# Altium schematic symbol library A28_Package.SCHLIB: 1 symbol
Pins are listed as number, name and electrical type; pins without a type are passive.

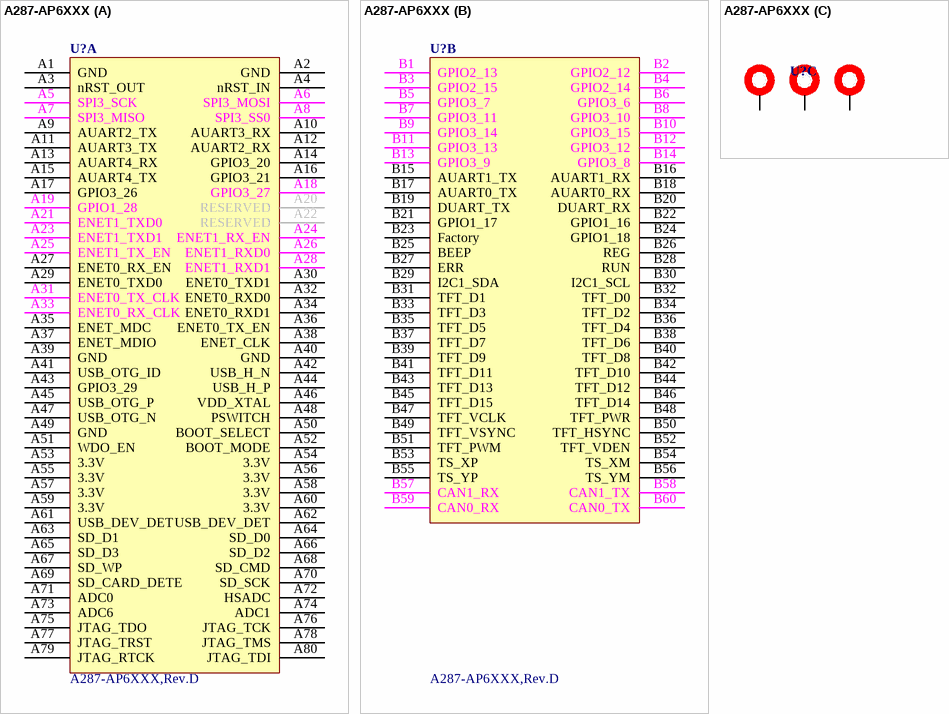
[diagram p0: symbol A287-AP6XXX]

## A287-AP6XXX
designator U?  value A287-AP6XXX,Rev.D  (hidden comment: A287-AP6XXX)
A287-AP6XXX,Rev.D,L6,1.6×30×48,F4-140,IG,1@3; 物料代码: 1.14.18.0163; 名称: PCB; RoHS: RoHS; 型号: A287-AP6XXX,Rev.D; 器件优选方案: *; ComponentLink1Description: ErpDataInfo; ComponentLink1URL: http://erp.zlgmcu.com/ErpExt/ErpData/ListMateriel.aspx?pkey=1.14.18.0163
footprint A287-AP6XXX (Rev.D)
part A pins: A1 GND, A2 GND, A3 nRST_OUT, A4 nRST_IN, A5 SPI3_SCK, A6 SPI3_MOSI, A7 SPI3_MISO, A8 SPI3_SS0, A9 AUART2_TX, A10 AUART3_RX, A11 AUART3_TX, A12 AUART2_RX, A13 AUART4_RX, A14 GPIO3_20, A15 AUART4_TX, A16 GPIO3_21, A17 GPIO3_26, A18 GPIO3_27, A19 GPIO1_28, A20 RESERVED, A21 ENET1_TXD0, A22 RESERVED, A23 ENET1_TXD1, A24 ENET1_RX_EN, A25 ENET1_TX_EN, A26 ENET1_RXD0, A27 ENET0_RX_EN, A28 ENET1_RXD1, A29 ENET0_TXD0, A30 ENET0_TXD1, A31 ENET0_TX_CLK, A32 ENET0_RXD0, A33 ENET0_RX_CLK, A34 ENET0_RXD1, A35 ENET_MDC, A36 ENET0_TX_EN, A37 ENET_MDIO, A38 ENET_CLK, A39 GND, A40 GND, A41 USB_OTG_ID, A42 USB_H_N, A43 GPIO3_29, A44 USB_H_P, A45 USB_OTG_P, A46 VDD_XTAL, A47 USB_OTG_N, A48 PSWITCH, A49 GND, A50 BOOT_SELECT, A51 WDO_EN, A52 BOOT_MODE, A53 3.3V, A54 3.3V, A55 3.3V, A56 3.3V, A57 3.3V, A58 3.3V, A59 3.3V, A60 3.3V, A61 USB_DEV_DET, A62 USB_DEV_DET, A63 SD_D1, A64 SD_D0, A65 SD_D3, A66 SD_D2, A67 SD_WP, A68 SD_CMD, A69 SD_CARD_DETE, A70 SD_SCK, A71 ADC0, A72 HSADC, A73 ADC6, A74 ADC1, A75 JTAG_TDO, A76 JTAG_TCK, A77 JTAG_TRST, A78 JTAG_TMS, A79 JTAG_RTCK, A80 JTAG_TDI
part B pins: B1 GPIO2_13, B2 GPIO2_12, B3 GPIO2_15, B4 GPIO2_14, B5 GPIO3_7, B6 GPIO3_6, B7 GPIO3_11, B8 GPIO3_10, B9 GPIO3_14, B10 GPIO3_15, B11 GPIO3_13, B12 GPIO3_12, B13 GPIO3_9, B14 GPIO3_8, B15 AUART1_TX, B16 AUART1_RX, B17 AUART0_TX, B18 AUART0_RX, B19 DUART_TX, B20 DUART_RX, B21 GPIO1_17, B22 GPIO1_16, B23 Factory, B24 GPIO1_18, B25 BEEP, B26 REG, B27 ERR, B28 RUN, B29 I2C1_SDA, B30 I2C1_SCL, B31 TFT_D1, B32 TFT_D0, B33 TFT_D3, B34 TFT_D2, B35 TFT_D5, B36 TFT_D4, B37 TFT_D7, B38 TFT_D6, B39 TFT_D9, B40 TFT_D8, B41 TFT_D11, B42 TFT_D10, B43 TFT_D13, B44 TFT_D12, B45 TFT_D15, B46 TFT_D14, B47 TFT_VCLK, B48 TFT_PWR, B49 TFT_VSYNC, B50 TFT_HSYNC, B51 TFT_PWM, B52 TFT_VDEN, B53 TS_XP, B54 TS_XM, B55 TS_YP, B56 TS_YM, B57 CAN1_RX, B58 CAN1_TX, B59 CAN0_RX, B60 CAN0_TX
part C pins: 1, 2, 3
2 alternate drawings of the same symbol